# Altium footprint library SOT - SmallOutlineTransistor.PcbLib: 22 footprints (part 2 of 2)
Each footprint in its own frame and in the unit in brackets; x right, y up, seen from the top. Pads: shape width x height; smd on the part's side, far side on the other; paste and mask are expansions set on the pad; w line width, h text height; cw(c..) or ccw(c..) is an arc to the next point about the centre after c.
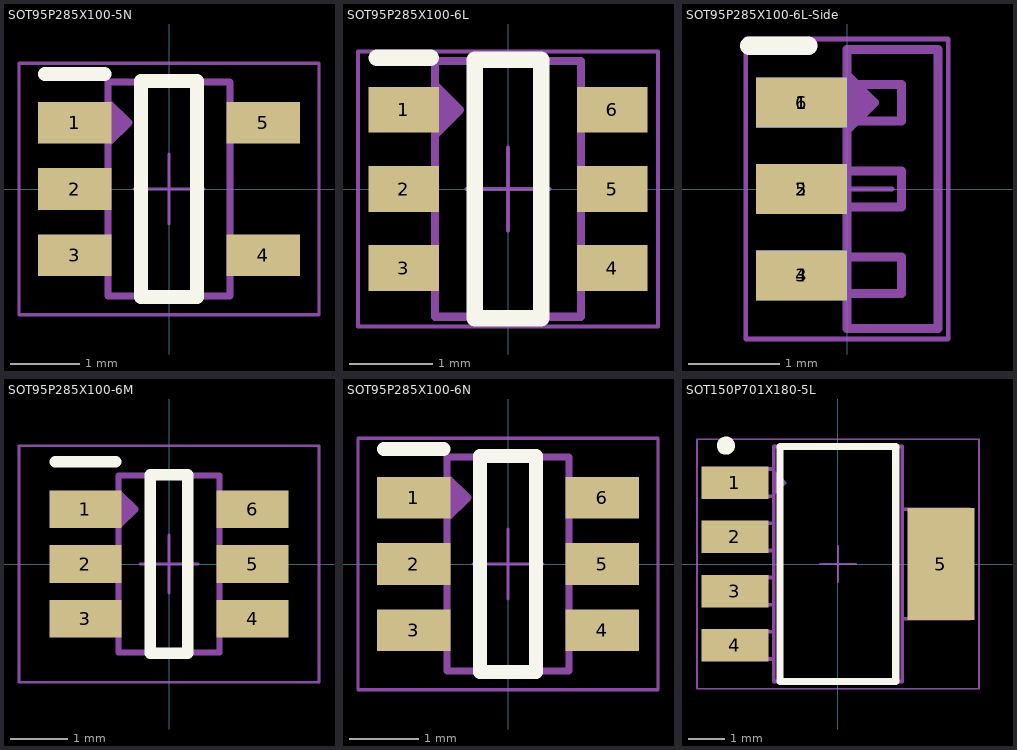
[diagram p1: the footprints below, top view; thin cyan lines are the x and y axes]

## SOT95P285X100-5N [mm] "SOT23, 5-Leads, Body 3.1x3.0mm (max), Pitch 0.95mm, IPC Medium Density"
height 1
pads (5):
  rect 1.05x0.6 smd: 1(-1.35,0.95) 2(-1.35,0) 3(-1.35,-0.95) 4(1.35,-0.95) 5(1.35,0.95)
Top Overlay:
  lines w0.2: -1.775,1.65 -0.925,1.65 ; -0.4,-1.55 -0.4,1.55 0.4,1.55 0.4,-1.55 -0.4,-1.55
TopBody:
  lines w0.1: -0.875,0.65 -0.575,0.95 -0.875,1.25 ; -0.875,0.75 -0.675,0.95 -0.875,1.15 ; -0.875,0.85 -0.775,0.95 -0.875,1.05 ; -0.875,-1.535 0.875,-1.535 0.875,1.535 -0.875,1.535 -0.875,-1.535
  text ".Designator" at 0.175,-0.825 h0.5
TopCourtyard:
  lines w0.05: -0.5,0 0,0 ; 0,-0.5 0,0 ; 0,0.5 0,0 ; 0.5,0 0,0 ; -2.15,-1.8 2.15,-1.8 2.15,1.8 -2.15,1.8 -2.15,-1.8
3D body: height 1, standoff 0, extent -0.875,-1.535 0.875,1.535

## SOT95P285X100-6L [mm] "SOT23, 6-Leads, Body 3.1x3.0mm (max), Pitch 0.95mm, IPC High Density"
height 1
pads (6):
  rect 0.85x0.55 smd: 1(-1.25,0.95) 2(-1.25,0) 3(-1.25,-0.95) 4(1.25,-0.95) 5(1.25,0) 6(1.25,0.95)
Top Overlay:
  lines w0.2: -1.575,1.575 -0.925,1.575 ; -0.4,-1.55 -0.4,1.55 0.4,1.55 0.4,-1.55 -0.4,-1.55
TopBody:
  lines w0.1: -0.875,0.65 -0.575,0.95 -0.875,1.25 ; -0.875,0.75 -0.675,0.95 -0.875,1.15 ; -0.875,0.85 -0.775,0.95 -0.875,1.05 ; -0.875,-1.535 0.875,-1.535 0.875,1.535 -0.875,1.535 -0.875,-1.535
  text ".Designator" at 0.175,-0.825 h0.5
TopCourtyard:
  lines w0.05: -0.5,0 0,0 ; 0,-0.5 0,0 ; 0,0.5 0,0 ; 0.5,0 0,0 ; -1.8,-1.65 1.8,-1.65 1.8,1.65 -1.8,1.65 -1.8,-1.65
3D body: height 1, standoff 0.01, extent -0.875,-1.535 0.875,1.535

## SOT95P285X100-6L-Side [mm] "SOT23, 6-Leads, Body 3.1x3.0mm (max), Pitch 0.95mm, IPC High Density"
height 1
pads (6):
  rect 1x0.55 smd: 1(-0.5,0.95) 2(-0.5,0) 3(-0.5,-0.95)
  rect 1x0.55 smd far side: 4(-0.5,-0.95) 5(-0.5,0) 6(-0.5,0.95)
Top Overlay:
  lines w0.2: -1.075,1.575 -0.425,1.575
TopBody:
  lines w0.1: 0,0.65 0.3,0.95 0,1.25 ; 0,0.75 0.2,0.95 0,1.15 ; 0,0.85 0.1,0.95 0,1.05 ; -0.4,-1.15 0.6,-1.15 0.6,-0.75 -0.4,-0.75 -0.4,-1.15 ; -0.4,-0.2 -0.4,0.2 0.6,0.2 0.6,-0.2 -0.4,-0.2 ; -0.4,0.75 0.6,0.75 0.6,1.15 -0.4,1.15 -0.4,0.75 ; 0,-1.535 0,1.535 1,1.535 1,-1.535 0,-1.535
BotBody:
  lines w0.1: -0.4,-1.15 -0.4,-0.75 0.6,-0.75 0.6,-1.15 -0.4,-1.15 ; -0.4,-0.2 0.6,-0.2 0.6,0.2 -0.4,0.2 -0.4,-0.2 ; -0.4,0.75 -0.4,1.15 0.6,1.15 0.6,0.75 -0.4,0.75
TopCourtyard:
  lines w0.05: -0.5,0 0,0 ; 0,-0.5 0,0 ; 0,0.5 0,0 ; 0.5,0 0,0 ; -1.114,-1.65 -1.114,1.65 1.114,1.65 1.114,-1.65 -1.114,-1.65
3D body: height 0.03, standoff -1.63, extent 0,-1.536 1,1.534
3D body: height 0.2, standoff 0, extent -0.4,-1.15 0.6,-0.75
3D body: height 0.2, standoff 0, extent -0.4,0.75 0.6,1.15
3D body: height 0.2, standoff 0, extent -0.4,-0.2 0.6,0.2
3D body: height -1.65, standoff -1.85, extent -0.4,-0.2 0.6,0.2
3D body: height -1.65, standoff -1.85, extent -0.4,0.75 0.6,1.15
3D body: height -1.65, standoff -1.85, extent -0.4,-1.15 0.6,-0.75

## SOT95P285X100-6M [mm] "SOT23, 6-Leads, Body 3.1x3.0mm (max), Pitch 0.95mm, IPC Low Density"
height 1
pads (6):
  rect 1.25x0.65 smd: 1(-1.45,0.95) 2(-1.45,0) 3(-1.45,-0.95) 4(1.45,-0.95) 5(1.45,0) 6(1.45,0.95)
Top Overlay:
  lines w0.2: -1.975,1.775 -0.925,1.775 ; -0.325,-1.55 -0.325,1.55 0.325,1.55 0.325,-1.55 -0.325,-1.55
TopBody:
  lines w0.1: -0.875,0.65 -0.575,0.95 -0.875,1.25 ; -0.875,0.75 -0.675,0.95 -0.875,1.15 ; -0.875,0.85 -0.775,0.95 -0.875,1.05 ; -0.875,-1.535 0.875,-1.535 0.875,1.535 -0.875,1.535 -0.875,-1.535
  text ".Designator" at 0.254,-0.635 h0.5
TopCourtyard:
  lines w0.05: -0.5,0 0,0 ; 0,-0.5 0,0 ; 0,0.5 0,0 ; 0.5,0 0,0 ; -2.6,-2.05 2.6,-2.05 2.6,2.05 -2.6,2.05 -2.6,-2.05
3D body: height 1, standoff 0.01, extent -0.875,-1.535 0.875,1.535
3D body: height 1.45, standoff 0, extent -1.6,-1.55 1.6,1.55

## SOT95P285X100-6N [mm] "SOT23, 6-Leads, Body 3.1x3.0mm (max), Pitch 0.95mm, IPC Medium Density"
height 1
pads (6):
  rect 1.05x0.6 smd: 1(-1.35,0.95) 2(-1.35,0) 3(-1.35,-0.95) 4(1.35,-0.95) 5(1.35,0) 6(1.35,0.95)
Top Overlay:
  lines w0.2: -1.775,1.65 -0.925,1.65 ; -0.4,-1.55 0.4,-1.55 0.4,1.55 -0.4,1.55 -0.4,-1.55
TopBody:
  lines w0.1: -0.875,0.65 -0.575,0.95 -0.875,1.25 ; -0.875,0.75 -0.675,0.95 -0.875,1.15 ; -0.875,0.85 -0.775,0.95 -0.875,1.05 ; -0.875,-1.535 -0.875,1.535 0.875,1.535 0.875,-1.535 -0.875,-1.535
  text ".Designator" at 0.254,-0.635 h0.5
TopCourtyard:
  lines w0.05: -0.5,0 0,0 ; 0,-0.5 0,0 ; 0,0.5 0,0 ; 0.5,0 0,0 ; -2.15,-1.8 -2.15,1.8 2.15,1.8 2.15,-1.8 -2.15,-1.8
3D body: height 1, standoff 0.01, extent -0.875,-1.535 0.875,1.535

## SOT150P701X180-5L [mm] "SOT223, 5-Leads, Body 6.7x7.3mm (max), Pitch 1.50mm, IPC High Density"
height 1.8
pads (5):
  rect 1.85x0.9 smd: 1(-2.85,2.25) 2(-2.85,0.75) 3(-2.85,-0.75) 4(-2.85,-2.25)
  rect 1.85x3.1 smd: 5(2.85,0)
Top Overlay:
  circle w0.25: c-3.1,3.275 r0.125
  lines w0.2: -1.6,-3.25 1.6,-3.25 1.6,3.25 -1.6,3.25 -1.6,-3.25
TopBody:
  lines w0.1: -1.78,-2.628 -3.65,-2.628 -3.65,-1.873 -1.78,-1.873 ; -1.78,-1.127 -3.65,-1.127 -3.65,-0.372 -1.78,-0.372 ; -1.78,0.373 -3.65,0.373 -3.65,1.128 -1.78,1.128 ; -1.78,1.873 -3.65,1.873 -3.65,2.628 -1.78,2.628 ; -1.78,1.95 -1.48,2.25 -1.78,2.55 ; -1.78,2.05 -1.58,2.25 -1.78,2.45 ; -1.78,2.15 -1.68,2.25 -1.78,2.35 ; 1.78,-1.52 3.65,-1.52 3.65,1.52 1.78,1.52 ; -1.78,-3.25 -1.78,3.25 1.78,3.25 1.78,-3.25 -1.78,-3.25
TopCourtyard:
  lines w0.05: -0.5,0 0,0 ; 0,-0.5 0,0 ; 0,0.5 0,0 ; 0.5,0 0,0 ; -3.9,-3.45 3.9,-3.45 3.9,3.45 -3.9,3.45 -3.9,-3.45
3D body: height 0.3, standoff 0, extent 1.78,-1.52 3.65,1.52
3D body: height 1.8, standoff 0, extent -1.78,-3.25 1.78,3.25
3D body: height 0.3, standoff 0, extent -3.65,0.373 -1.78,1.128
3D body: height 0.3, standoff 0, extent -3.65,1.873 -1.78,2.628
3D body: height 0.3, standoff 0, extent -3.65,-1.127 -1.78,-0.372
3D body: height 0.3, standoff 0, extent -3.65,-2.628 -1.78,-1.873